# Altium footprint library RESAD1700W100L1500D550.PcbLib: 1 footprints
Each footprint in its own frame and in the unit in brackets; x right, y up, seen from the top. Pads: shape width x height; smd on the part's side, far side on the other; paste and mask are expansions set on the pad; w line width, h text height; cw(c..) or ccw(c..) is an arc to the next point about the centre after c.
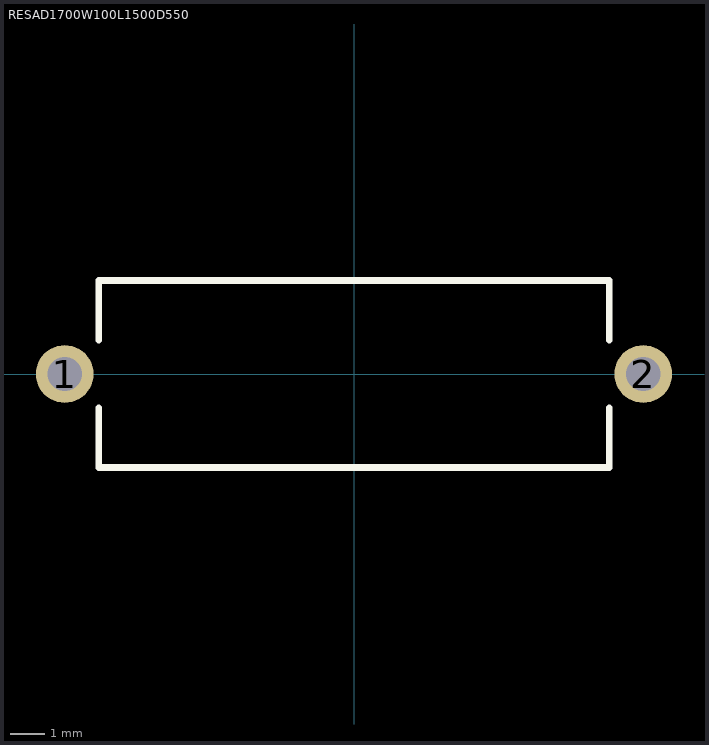
[diagram p0: the footprint, top view; thin cyan lines are the x and y axes]

## RESAD1700W100L1500D550 [mm] "Resistor Lead Spacing 17mm Len 158mm Dia 5.5mm"
height 5.5
pads (2):
  round 1.7 hole 1: 1(-8.5,0) 2(8.5,0)
Top Overlay:
  lines w0.2: -7.5,-1 -7.5,-2.75 7.5,-2.75 7.5,-1 ; -7.5,1 -7.5,2.75 7.5,2.75 7.5,1
3D body: height 5.75, standoff 0.25, extent -7.5,-2.75 7.5,2.75